# EAGLE library part PIC16F1615-TSSOP (library PIC16F(L)1615)
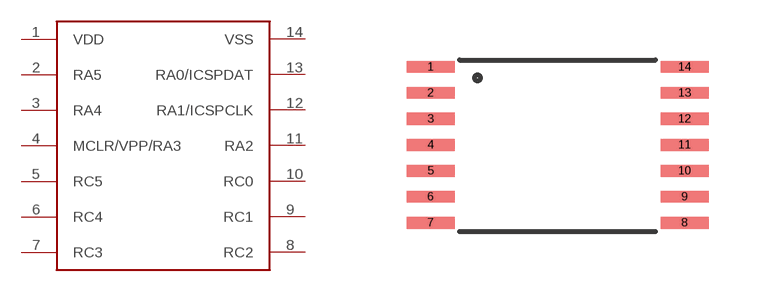
[diagram p0: symbol with the pads of PIC16F(L)1615-TSSOP; footprint PIC16F(L)1615-TSSOP]

Designator prefix -

## PIC16F1615-TSSOP  [PIC16F(L)1615-TSSOP]
1  VDD
2  RA5
3  RA4
4  MCLR/VPP/RA3
5  RC5
6  RC4
7  RC3
8  RC2
9  RC1
10  RC0
11  RA2
12  RA1/ICSPCLK
13  RA0/ICSPDAT
14  VSS

## Footprint PIC16F(L)1615-TSSOP (pad centres in mm)
smd 1.2 x 0.3: 1 -3.175,1.975; 2 -3.175,1.325; 3 -3.175,0.675; 4 -3.175,0.025; 5 -3.175,-0.625; 6 -3.175,-1.275; 7 -3.175,-1.925; 8 3.175,-1.925; 9 3.175,-1.275; 10 3.175,-0.625; 11 3.175,0.025; 12 3.175,0.675; 13 3.175,1.325; 14 3.175,1.975